# Altium schematic symbol library SCH - DRIVER - LED - TI TLC5955DCA.SchLib: 1 symbol
Pins are listed as number, name and electrical type; pins without a type are passive.

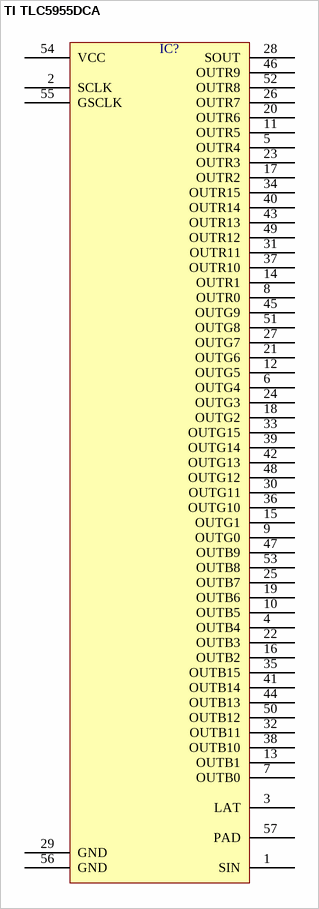
[diagram p0: symbol TI TLC5955DCA]

## TI TLC5955DCA
designator IC?  (value not drawn)
pins: 1 SIN, 2 SCLK, 3 LAT, 4 OUTB4, 5 OUTR4, 6 OUTG4, 7 OUTB0, 8 OUTR0, 9 OUTG0, 10 OUTB5, 11 OUTR5, 12 OUTG5, 13 OUTB1, 14 OUTR1, 15 OUTG1, 16 OUTB2, 17 OUTR2, 18 OUTG2, 19 OUTB6, 20 OUTR6, 21 OUTG6, 22 OUTB3, 23 OUTR3, 24 OUTG3, 25 OUTB7, 26 OUTR7, 27 OUTG7, 28 SOUT, 29 GND, 30 OUTG11, 31 OUTR11, 32 OUTB11, 33 OUTG15, 34 OUTR15, 35 OUTB15, 36 OUTG10, 37 OUTR10, 38 OUTB10, 39 OUTG14, 40 OUTR14, 41 OUTB14, 42 OUTG13, 43 OUTR13, 44 OUTB13, 45 OUTG9, 46 OUTR9, 47 OUTB9, 48 OUTG12, 49 OUTR12, 50 OUTB12, 51 OUTG8, 52 OUTR8, 53 OUTB8, 54 VCC, 55 GSCLK, 56 GND, 57 PAD